# Altium integrated library Analog Devices Audio and Video Video Amps, Buffers and Filters.IntLib: 89 symbols (part 4 of 5)
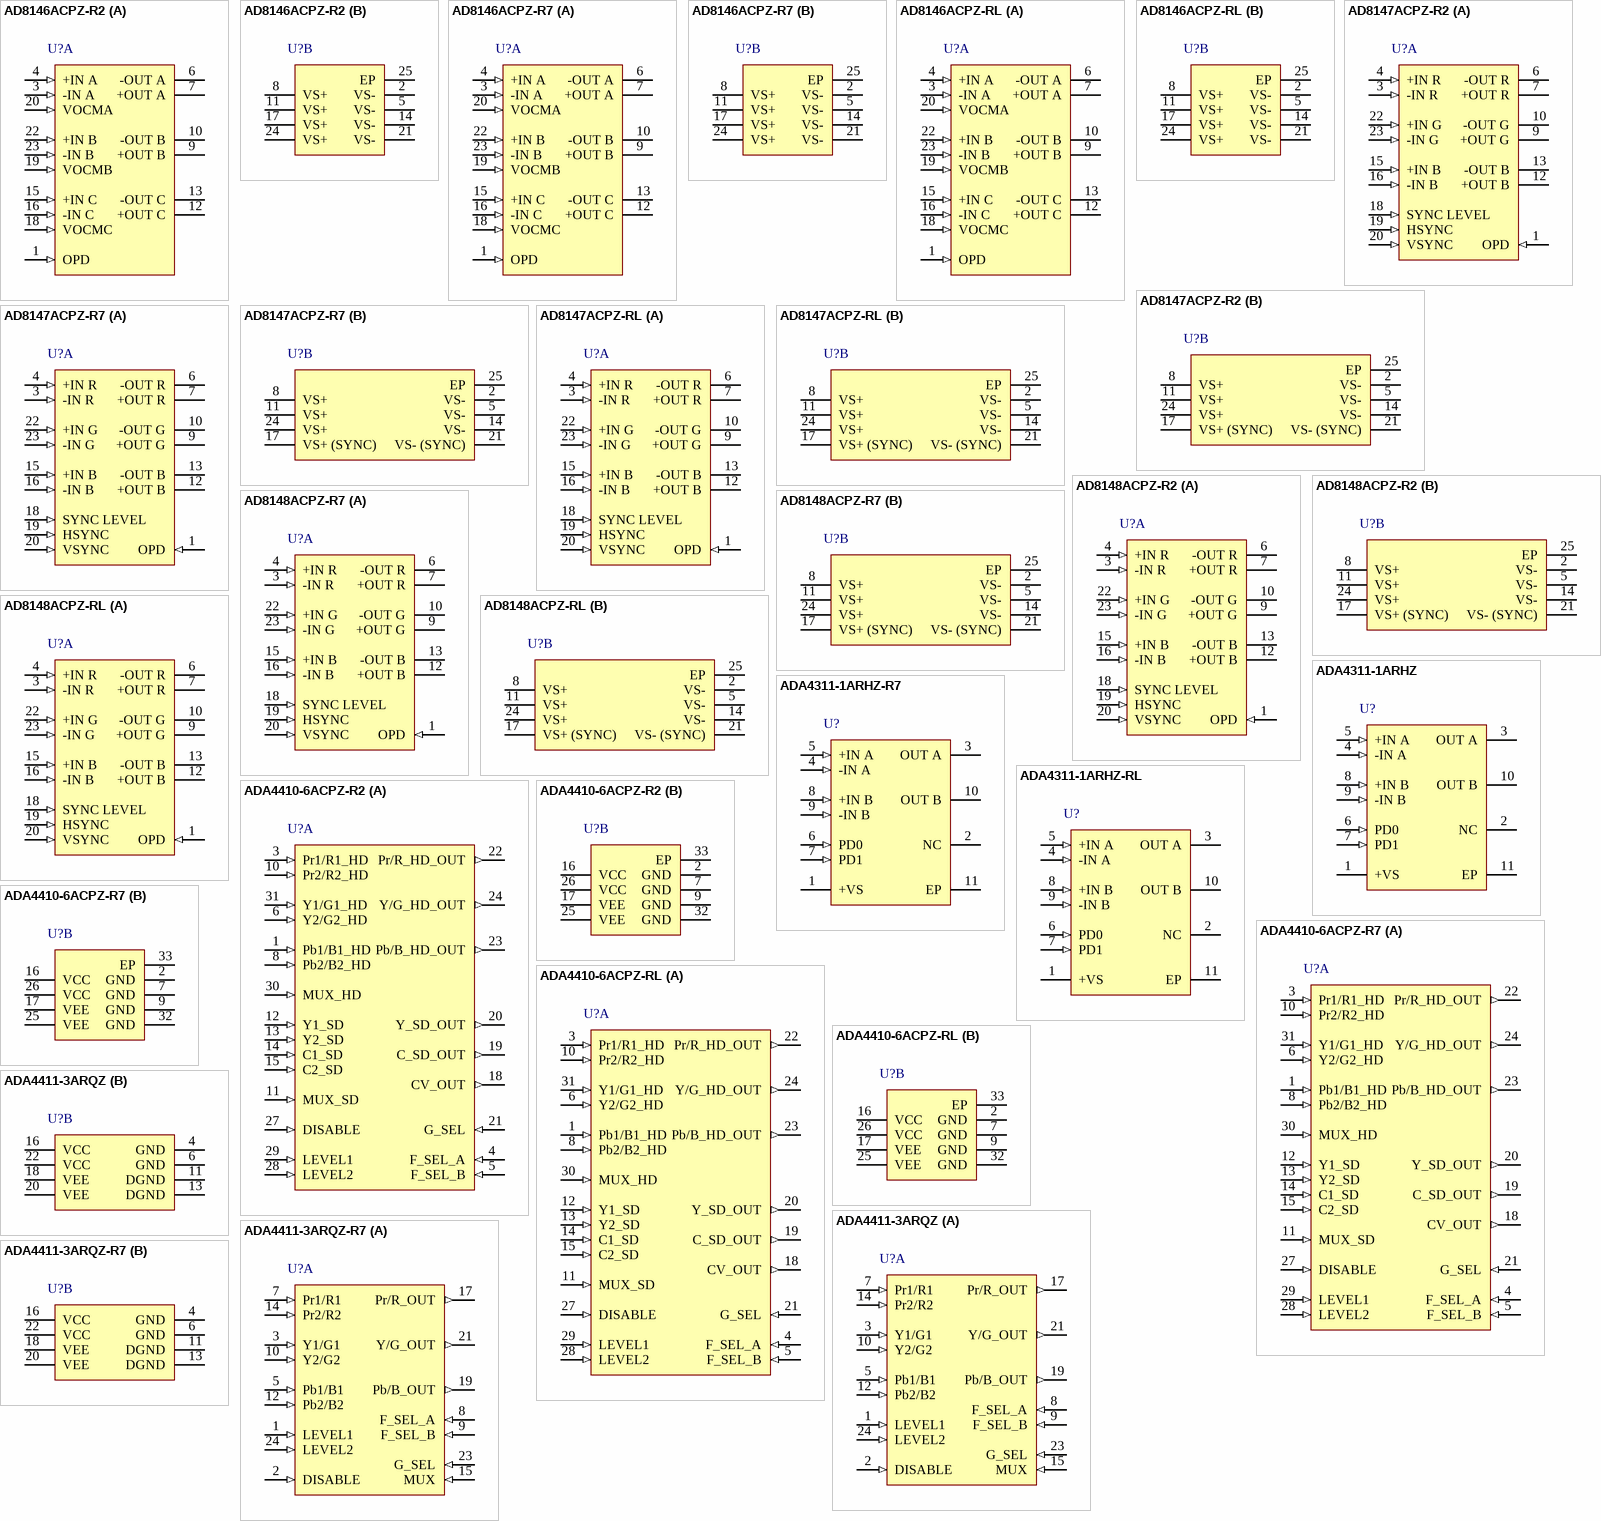
[diagram p7: symbols AD8146ACPZ-R2 to ADA4411-3ARQZ-R7]

## AD8148ACPZ-RL
designator U?
Triple Differential Driver for Wideband Video, 4.5 to 5.5 V Supply, 700 MHz Bandwidth, Industrial, 24-pin QFN (CP-24-1), Reel; Manufacturer: Analog Devices; PartNumber: AD8148ACPZ-RL; -3dB Bandwidth: 700MHz, 620MHz; 0.1 dB Flatness (MHz): 235, 200; Max Pos Supply: 5.5V; Min Pos Supply: 4.5V; Minimum Gain (Acl): 4; Slew Rate (V/us): 3000; DatasheetVersion: Rev. A; PackageVersion: May-04; PackageReference: CP-24-1; PackageDescription: 24-Pin Lead Frame Chip Scale Package, Body 4 x 4 mm, Pitch 0.5 mm; Supplier 1: Digi-Key; Supplier Part Number 1: AD8148ACPZ-RL-ND; Supplier 2: Newark; Supplier Part Number 2: 46M5270; Supplier 3: Mouser; Supplier Part Number 3: 584-AD8148ACPZ-R; Packing: Reel; Mounting Technology: Surface Mount; Code_JEDEC: MO-220-VGGD-2; ComponentLink1Description: Manufacturer URL; ComponentLink1URL: http://www.analog.com/en/index.html; ComponentLink2Description: Datasheet; ComponentLink2URL: http://www.analog.com/static/imported-files/data_sheets/AD8146_8147_8148.pdf; ComponentLink3Description: Package Specification; ComponentLink3URL: http://www.analog.com/static/imported-files/packages/CP_24_1.pdf; ComponentLink4Description: URL Link1; ComponentLink4URL: Product URL:http://www.analog.com/en/specialty-amplifiers/video-ampsbuffersfilters/ad8148/products/product.html
footprint ADI-CP-24-1_N (QFN, 24-Leads, Body 4x4mm, Pitch 0.5mm, Thermal Pad 2.1x2.1mm, IPC Medium Density)
footprint ADI-CP-24-1_L (QFN, 24-Leads, Body 4x4mm, Pitch 0.5mm, Thermal Pad 2.1x2.1mm, IPC High Density)
footprint ADI-CP-24-1_M (QFN, 24-Leads, Body 4x4mm, Pitch 0.5mm, Thermal Pad 2.1x2.1mm, IPC Low Density)
part A pins: 1 OPD (in) "Output Pull-Down.", 3 -IN R (in) "Inverting Input, Red Amplifier.", 4 +IN R (in) "Noninverting Input, Red Amplifier.", 6 -OUT R (hiz) "Negative Output, Red Amplifier.", 7 +OUT R (hiz) "Positive Output, Red Amplifier.", 9 +OUT G (hiz) "Positive Output, Green Amplifier.", 10 -OUT G (hiz) "Negative Output, Green Amplifier.", 12 +OUT B (hiz) "Positive Output, Blue Amplifier.", 13 -OUT B (hiz) "Negative Output, Blue Amplifier.", 15 +IN B (in) "Noninverting Input, Blue Amplifier.", 16 -IN B (in) "Inverting Input, Blue Amplifier.", 18 SYNC LEVEL (in) "The voltage applied to this pin controls the amplitude of the sync pulses that are applied to the common-mode voltages.", 19 HSYNC (in) "Horizontal Sync Pulse Input.", 20 VSYNC (in) "Vertical Sync Pulse Input.", 22 +IN G (in) "Noninverting Input, Green Amplifier.", 23 -IN G (in) "Inverting Input, Green Amplifier."
part B pins: 2 VS- (power) "Negative Power Supply Voltage", 5 VS- (power) "Negative Power Supply Voltage", 8 VS+ (power) "Positive Power Supply Voltage.", 11 VS+ (power) "Positive Power Supply Voltage.", 14 VS- (power) "Negative Power Supply Voltage", 17 VS+ (SYNC) (power) "Positive Power Supply Voltage for Sync.", 21 VS- (SYNC) (power) "Negative Power Supply Voltage for Sync.", 24 VS+ (power) "Positive Power Supply Voltage.", 25 EP (power) "Signal Ground Reference."

## ADA4311-1ARHZ
designator U?
Low Cost, Dual, High Current Output Line Driver with Shutdown, 12 V Supply, 310 MHz Bandwidth, Industrial, 10-pin SOP (RH-10-1), Tube; Manufacturer: Analog Devices; PartNumber: ADA4311-1ARHZ; -3dB Bandwidth: 310 MHz; Minimum Gain (Acl): 5; Slew Rate (V/us): 1050; DatasheetVersion: Rev. 0; PackageVersion: 071008-C, 07/2008; PackageReference: RH-10-1; PackageDescription: 10-Pin Mini Small Outline Package, Body 3 x 3 mm, Pitch 0.5 mm; Supplier 1: Digi-Key; Supplier Part Number 1: ADA4311-1ARHZ-ND; Supplier 2: Mouser; Supplier Part Number 2: 584-ADA4311-1ARHZ; Packing: Tube; Mounting Technology: Surface Mount; Code_JEDEC: MO-187-BA-T; ComponentLink1Description: Manufacturer URL; ComponentLink1URL: http://www.analog.com/en/index.html; ComponentLink2Description: Datasheet; ComponentLink2URL: http://www.analog.com/static/imported-files/data_sheets/AD4311-1.pdf; ComponentLink3Description: Package Specification; ComponentLink3URL: http://www.analog.com/static/imported-files/packages/PKG_PDF/MSOP_ED(RH)/RH_10_1.pdf; ComponentLink4Description: URL Link1; ComponentLink4URL: Product URL:http://www.analog.com/en/specialty-amplifiers/broadband-amplifiers/ada4311-1/products/product.html
footprint ADI-RH-10-1_N (SOP, 10-Leads, Body 3x3mm, Pitch 0.5mm, Thermal Pad 2.17x1.73mm, IPC Medium Density)
footprint ADI-RH-10-1_L (SOP, 10-Leads, Body 3x3mm, Pitch 0.5mm, Thermal Pad 2.17x1.73mm, IPC High Density)
footprint ADI-RH-10-1_M (SOP, 10-Leads, Body 3x3mm, Pitch 0.5mm, Thermal Pad 2.17x1.73mm, IPC Low Density)
pins: 1 +VS (power) "Positive Power Supply Input.", 2 NC "No Connection.", 3 OUT A (hiz) "Amplifier A Output.", 4 -IN A (in) "Amplifier A Inverting Input.", 5 +IN A (in) "Amplifier A Noninverting Input.", 6 PD0 (in) "Power Dissipation Control.", 7 PD1 (in) "Power Dissipation Control.", 8 +IN B (in) "Amplifier B Noninverting Input.", 9 -IN B (in) "Amplifier B Inverting Input.", 10 OUT B (hiz) "Amplifier B Output.", 11 EP (power) "Ground (Electrical Connection Required)."

## ADA4311-1ARHZ-R7
designator U?
Low Cost, Dual, High Current Output Line Driver with Shutdown, 12 V Supply, 310 MHz Bandwidth, Industrial, 10-pin SOP (RH-10-1), Reel; Manufacturer: Analog Devices; PartNumber: ADA4311-1ARHZ-R7; -3dB Bandwidth: 310 MHz; Minimum Gain (Acl): 5; Slew Rate (V/us): 1050; DatasheetVersion: Rev. 0; PackageVersion: 071008-C, 07/2008; PackageReference: RH-10-1; PackageDescription: 10-Pin Mini Small Outline Package, Body 3 x 3 mm, Pitch 0.5 mm; Supplier 1: Digi-Key; Supplier Part Number 1: ADA4311-1ARHZ-R7TR-ND; Supplier 2: Digi-Key; Supplier Part Number 2: ADA4311-1ARHZ-R7CT-ND; Supplier 3: Digi-Key; Supplier Part Number 3: ADA4311-1ARHZ-R7DKR-ND; Supplier 4: Mouser; Supplier Part Number 4: 584-ADA4311-1ARHZ-R7; Packing: Reel; Mounting Technology: Surface Mount; Code_JEDEC: MO-187-BA-T; ComponentLink1Description: Manufacturer URL; ComponentLink1URL: http://www.analog.com/en/index.html; ComponentLink2Description: Datasheet; ComponentLink2URL: http://www.analog.com/static/imported-files/data_sheets/AD4311-1.pdf; ComponentLink3Description: Package Specification; ComponentLink3URL: http://www.analog.com/static/imported-files/packages/PKG_PDF/MSOP_ED(RH)/RH_10_1.pdf; ComponentLink4Description: URL Link1; ComponentLink4URL: Product URL:http://www.analog.com/en/specialty-amplifiers/broadband-amplifiers/ada4311-1/products/product.html
footprint ADI-RH-10-1_N (SOP, 10-Leads, Body 3x3mm, Pitch 0.5mm, Thermal Pad 2.17x1.73mm, IPC Medium Density)
footprint ADI-RH-10-1_L (SOP, 10-Leads, Body 3x3mm, Pitch 0.5mm, Thermal Pad 2.17x1.73mm, IPC High Density)
footprint ADI-RH-10-1_M (SOP, 10-Leads, Body 3x3mm, Pitch 0.5mm, Thermal Pad 2.17x1.73mm, IPC Low Density)
pins: 1 +VS (power) "Positive Power Supply Input.", 2 NC "No Connection.", 3 OUT A (hiz) "Amplifier A Output.", 4 -IN A (in) "Amplifier A Inverting Input.", 5 +IN A (in) "Amplifier A Noninverting Input.", 6 PD0 (in) "Power Dissipation Control.", 7 PD1 (in) "Power Dissipation Control.", 8 +IN B (in) "Amplifier B Noninverting Input.", 9 -IN B (in) "Amplifier B Inverting Input.", 10 OUT B (hiz) "Amplifier B Output.", 11 EP (power) "Ground (Electrical Connection Required)."

## ADA4311-1ARHZ-RL
designator U?
Low Cost, Dual, High Current Output Line Driver with Shutdown, 12 V Supply, 310 MHz Bandwidth, Industrial, 10-pin SOP (RH-10-1), Reel; Manufacturer: Analog Devices; PartNumber: ADA4311-1ARHZ-RL; -3dB Bandwidth: 310 MHz; Minimum Gain (Acl): 5; Slew Rate (V/us): 1050; DatasheetVersion: Rev. 0; PackageVersion: 071008-C, 07/2008; PackageReference: RH-10-1; PackageDescription: 10-Pin Mini Small Outline Package, Body 3 x 3 mm, Pitch 0.5 mm; Supplier 1: Digi-Key; Supplier Part Number 1: ADA4311-1ARHZ-RL-ND; Supplier 2: Mouser; Supplier Part Number 2: 584-ADA4311-1ARHZ-R; Packing: Reel; Mounting Technology: Surface Mount; Code_JEDEC: MO-187-BA-T; ComponentLink1Description: Manufacturer URL; ComponentLink1URL: http://www.analog.com/en/index.html; ComponentLink2Description: Datasheet; ComponentLink2URL: http://www.analog.com/static/imported-files/data_sheets/AD4311-1.pdf; ComponentLink3Description: Package Specification; ComponentLink3URL: http://www.analog.com/static/imported-files/packages/PKG_PDF/MSOP_ED(RH)/RH_10_1.pdf; ComponentLink4Description: URL Link1; ComponentLink4URL: Product URL:http://www.analog.com/en/specialty-amplifiers/broadband-amplifiers/ada4311-1/products/product.html
footprint ADI-RH-10-1_N (SOP, 10-Leads, Body 3x3mm, Pitch 0.5mm, Thermal Pad 2.17x1.73mm, IPC Medium Density)
footprint ADI-RH-10-1_L (SOP, 10-Leads, Body 3x3mm, Pitch 0.5mm, Thermal Pad 2.17x1.73mm, IPC High Density)
footprint ADI-RH-10-1_M (SOP, 10-Leads, Body 3x3mm, Pitch 0.5mm, Thermal Pad 2.17x1.73mm, IPC Low Density)
pins: 1 +VS (power) "Positive Power Supply Input.", 2 NC "No Connection.", 3 OUT A (hiz) "Amplifier A Output.", 4 -IN A (in) "Amplifier A Inverting Input.", 5 +IN A (in) "Amplifier A Noninverting Input.", 6 PD0 (in) "Power Dissipation Control.", 7 PD1 (in) "Power Dissipation Control.", 8 +IN B (in) "Amplifier B Noninverting Input.", 9 -IN B (in) "Amplifier B Inverting Input.", 10 OUT B (hiz) "Amplifier B Output.", 11 EP (power) "Ground (Electrical Connection Required)."

## ADA4410-6ACPZ-R2
designator U?
Integrated Video Filter with Selectable Cutoff Frequencies for RGB, HD / SD, Y, C, and CV, 5 V Max Supply, 1080i, 720p Resolution, Industrial, 32-pin QFN (CP-32-2), Reel; Manufacturer: Analog Devices; PartNumber: ADA4410-6ACPZ-R2; Max Pos Supply: 12V; Standards: CV, RGB, SD, Y/C, YPbPr, YUV; Variable Gain: 2x, 4x; DatasheetVersion: Rev. B; PackageVersion: Jan-05; PackageReference: CP-32-2; PackageDescription: 32-Pin Lead Frame Chip Scale Package, Body 5 x 5 mm, Pitch 0.5 mm; Supplier 1: Digi-Key; Supplier Part Number 1: ADA4410-6ACPZ-R2CT-ND; Supplier 2: Digi-Key; Supplier Part Number 2: ADA4410-6ACPZ-R2DKR-ND; Supplier 3: Newark; Supplier Part Number 3: 12M7598; Supplier 4: Mouser; Supplier Part Number 4: N/A; Packing: Reel; Resolution: 1080i; Mounting Technology: Surface Mount; Code_JEDEC: MO-220-VHHD-2; ComponentLink1Description: Manufacturer URL; ComponentLink1URL: http://www.analog.com/en/index.html; ComponentLink2Description: Datasheet; ComponentLink2URL: http://www.analog.com/static/imported-files/data_sheets/ADA4410-6.pdf; ComponentLink3Description: Package Specification; ComponentLink3URL: http://www.analog.com/static/imported-files/packages/414143737956480539664569CP_32_2.pdf; ComponentLink4Description: URL Link1; ComponentLink4URL: Product URL:http://www.analog.com/en/specialty-amplifiers/video-ampsbuffersfilters/ada4410-6/products/product.html
footprint ADI-CP-32-2_N (QFN, 32-Leads, Body 5x5mm, Pitch 0.5mm, Thermal Pad 3.1x3.1mm, IPC Medium Density)
footprint ADI-CP-32-2_L (QFN, 32-Leads, Body 5x5mm, Pitch 0.5mm, Thermal Pad 3.1x3.1mm, IPC High Density)
footprint ADI-CP-32-2_M (QFN, 32-Leads, Body 5x5mm, Pitch 0.5mm, Thermal Pad 3.1x3.1mm, IPC Low Density)
part A pins: 1 Pb1/B1_HD (in) "Channel 1 Pb/B High Definition Input", 3 Pr1/R1_HD (in) "Channel 1 Pr/R High Definition Input", 4 F_SEL_A (in) "Filter Cutoff Select Input A", 5 F_SEL_B (in) "Filter Cutoff Select Input B", 6 Y2/G2_HD (in) "Channel 2 Y/G High Definition Input", 8 Pb2/B2_HD (in) "Channel 2 Pb/B High Definition Input", 10 Pr2/R2_HD (in) "Channel 2 Pr/R High Definition Input", 11 MUX_SD (in) "Standard Definition Input Mux Select Line", 12 Y1_SD (in) "Channel 1 Y Standard Definition Input", 13 Y2_SD (in) "Channel 2 Y Standard Definition Input", 14 C1_SD (in) "Channel 1 C Standard Definition Input", 15 C2_SD (in) "Channel 2 C Standard Definition Input", 18 CV_OUT (out) "Composite Video Output", 19 C_SD_OUT (out) "C Standard Definition Output", 20 Y_SD_OUT (out) "Y Standard Definition Output", 21 G_SEL (in) "Gain Select", 22 Pr/R_HD_OUT (out) "Pr/R High Definition Output", 23 Pb/B_HD_OUT (out) "Pb/B High Definition Output", 24 Y/G_HD_OUT (out) "Y/G High Definition Output", 27 DISABLE (in) "Disable/Power Down/Logic Reference", 28 LEVEL2 (in) "DC Level Adjust Pin 2", 29 LEVEL1 (in) "DC Level Adjust Pin 1", 30 MUX_HD (in) "High Definition Input Mux Select Line", 31 Y1/G1_HD (in) "Channel 1 Y/G High Definition Input"
part B pins: 2 GND (power) "Signal Ground Reference", 7 GND (power) "Signal Ground Reference", 9 GND (power) "Signal Ground Reference", 16 VCC (power) "Positive Power Supply", 17 VEE (power) "Negative Power Supply", 25 VEE (power) "Negative Power Supply", 26 VCC (power) "Positive Power Supply", 32 GND (power) "Signal Ground Reference", 33 EP

## ADA4410-6ACPZ-R7
designator U?
Integrated Video Filter with Selectable Cutoff Frequencies for RGB, HD / SD, Y, C, and CV, 5 V Max Supply, 1080i, 720p Resolution, Industrial, 32-pin QFN (CP-32-2), Reel; Manufacturer: Analog Devices; PartNumber: ADA4410-6ACPZ-R7; Max Pos Supply: 12V; Standards: CV, RGB, SD, Y/C, YPbPr, YUV; Variable Gain: 2x, 4x; DatasheetVersion: Rev. B; PackageVersion: Jan-05; PackageReference: CP-32-2; PackageDescription: 32-Pin Lead Frame Chip Scale Package, Body 5 x 5 mm, Pitch 0.5 mm; Supplier 1: Digi-Key; Supplier Part Number 1: ADA4410-6ACPZ-R7TR-ND; Supplier 2: Digi-Key; Supplier Part Number 2: ADA4410-6ACPZ-R7CT-ND; Supplier 3: Digi-Key; Supplier Part Number 3: ADA4410-6ACPZ-R7DKR-ND; Supplier 4: Mouser; Supplier Part Number 4: 584-ADA4410-6ACPZ-R7; Packing: Reel; Resolution: 1080i; Mounting Technology: Surface Mount; Code_JEDEC: MO-220-VHHD-2; ComponentLink1Description: Manufacturer URL; ComponentLink1URL: http://www.analog.com/en/index.html; ComponentLink2Description: Datasheet; ComponentLink2URL: http://www.analog.com/static/imported-files/data_sheets/ADA4410-6.pdf; ComponentLink3Description: Package Specification; ComponentLink3URL: http://www.analog.com/static/imported-files/packages/414143737956480539664569CP_32_2.pdf; ComponentLink4Description: URL Link1; ComponentLink4URL: Product URL:http://www.analog.com/en/specialty-amplifiers/video-ampsbuffersfilters/ada4410-6/products/product.html
footprint ADI-CP-32-2_N (QFN, 32-Leads, Body 5x5mm, Pitch 0.5mm, Thermal Pad 3.1x3.1mm, IPC Medium Density)
footprint ADI-CP-32-2_L (QFN, 32-Leads, Body 5x5mm, Pitch 0.5mm, Thermal Pad 3.1x3.1mm, IPC High Density)
footprint ADI-CP-32-2_M (QFN, 32-Leads, Body 5x5mm, Pitch 0.5mm, Thermal Pad 3.1x3.1mm, IPC Low Density)
part A pins: 1 Pb1/B1_HD (in) "Channel 1 Pb/B High Definition Input", 3 Pr1/R1_HD (in) "Channel 1 Pr/R High Definition Input", 4 F_SEL_A (in) "Filter Cutoff Select Input A", 5 F_SEL_B (in) "Filter Cutoff Select Input B", 6 Y2/G2_HD (in) "Channel 2 Y/G High Definition Input", 8 Pb2/B2_HD (in) "Channel 2 Pb/B High Definition Input", 10 Pr2/R2_HD (in) "Channel 2 Pr/R High Definition Input", 11 MUX_SD (in) "Standard Definition Input Mux Select Line", 12 Y1_SD (in) "Channel 1 Y Standard Definition Input", 13 Y2_SD (in) "Channel 2 Y Standard Definition Input", 14 C1_SD (in) "Channel 1 C Standard Definition Input", 15 C2_SD (in) "Channel 2 C Standard Definition Input", 18 CV_OUT (out) "Composite Video Output", 19 C_SD_OUT (out) "C Standard Definition Output", 20 Y_SD_OUT (out) "Y Standard Definition Output", 21 G_SEL (in) "Gain Select", 22 Pr/R_HD_OUT (out) "Pr/R High Definition Output", 23 Pb/B_HD_OUT (out) "Pb/B High Definition Output", 24 Y/G_HD_OUT (out) "Y/G High Definition Output", 27 DISABLE (in) "Disable/Power Down/Logic Reference", 28 LEVEL2 (in) "DC Level Adjust Pin 2", 29 LEVEL1 (in) "DC Level Adjust Pin 1", 30 MUX_HD (in) "High Definition Input Mux Select Line", 31 Y1/G1_HD (in) "Channel 1 Y/G High Definition Input"
part B pins: 2 GND (power) "Signal Ground Reference", 7 GND (power) "Signal Ground Reference", 9 GND (power) "Signal Ground Reference", 16 VCC (power) "Positive Power Supply", 17 VEE (power) "Negative Power Supply", 25 VEE (power) "Negative Power Supply", 26 VCC (power) "Positive Power Supply", 32 GND (power) "Signal Ground Reference", 33 EP

## ADA4410-6ACPZ-RL
designator U?
Integrated Video Filter with Selectable Cutoff Frequencies for RGB, HD / SD, Y, C, and CV, 5 V Max Supply, 1080i, 720p Resolution, Industrial, 32-pin QFN (CP-32-2), Reel; Manufacturer: Analog Devices; PartNumber: ADA4410-6ACPZ-RL; Max Pos Supply: 12V; Standards: CV, RGB, SD, Y/C, YPbPr, YUV; Variable Gain: 2x, 4x; DatasheetVersion: Rev. B; PackageVersion: Jan-05; PackageReference: CP-32-2; PackageDescription: 32-Pin Lead Frame Chip Scale Package, Body 5 x 5 mm, Pitch 0.5 mm; Supplier 1: Digi-Key; Supplier Part Number 1: ADA4410-6ACPZ-RL-ND; Supplier 2: Mouser; Supplier Part Number 2: 584-ADA4410-6ACPZ-R; Packing: Reel; Resolution: 1080i; Mounting Technology: Surface Mount; Code_JEDEC: MO-220-VHHD-2; ComponentLink1Description: Manufacturer URL; ComponentLink1URL: http://www.analog.com/en/index.html; ComponentLink2Description: Datasheet; ComponentLink2URL: http://www.analog.com/static/imported-files/data_sheets/ADA4410-6.pdf; ComponentLink3Description: Package Specification; ComponentLink3URL: http://www.analog.com/static/imported-files/packages/414143737956480539664569CP_32_2.pdf; ComponentLink4Description: URL Link1; ComponentLink4URL: Product URL:http://www.analog.com/en/specialty-amplifiers/video-ampsbuffersfilters/ada4410-6/products/product.html
footprint ADI-CP-32-2_N (QFN, 32-Leads, Body 5x5mm, Pitch 0.5mm, Thermal Pad 3.1x3.1mm, IPC Medium Density)
footprint ADI-CP-32-2_L (QFN, 32-Leads, Body 5x5mm, Pitch 0.5mm, Thermal Pad 3.1x3.1mm, IPC High Density)
footprint ADI-CP-32-2_M (QFN, 32-Leads, Body 5x5mm, Pitch 0.5mm, Thermal Pad 3.1x3.1mm, IPC Low Density)
part A pins: 1 Pb1/B1_HD (in) "Channel 1 Pb/B High Definition Input", 3 Pr1/R1_HD (in) "Channel 1 Pr/R High Definition Input", 4 F_SEL_A (in) "Filter Cutoff Select Input A", 5 F_SEL_B (in) "Filter Cutoff Select Input B", 6 Y2/G2_HD (in) "Channel 2 Y/G High Definition Input", 8 Pb2/B2_HD (in) "Channel 2 Pb/B High Definition Input", 10 Pr2/R2_HD (in) "Channel 2 Pr/R High Definition Input", 11 MUX_SD (in) "Standard Definition Input Mux Select Line", 12 Y1_SD (in) "Channel 1 Y Standard Definition Input", 13 Y2_SD (in) "Channel 2 Y Standard Definition Input", 14 C1_SD (in) "Channel 1 C Standard Definition Input", 15 C2_SD (in) "Channel 2 C Standard Definition Input", 18 CV_OUT (out) "Composite Video Output", 19 C_SD_OUT (out) "C Standard Definition Output", 20 Y_SD_OUT (out) "Y Standard Definition Output", 21 G_SEL (in) "Gain Select", 22 Pr/R_HD_OUT (out) "Pr/R High Definition Output", 23 Pb/B_HD_OUT (out) "Pb/B High Definition Output", 24 Y/G_HD_OUT (out) "Y/G High Definition Output", 27 DISABLE (in) "Disable/Power Down/Logic Reference", 28 LEVEL2 (in) "DC Level Adjust Pin 2", 29 LEVEL1 (in) "DC Level Adjust Pin 1", 30 MUX_HD (in) "High Definition Input Mux Select Line", 31 Y1/G1_HD (in) "Channel 1 Y/G High Definition Input"
part B pins: 2 GND (power) "Signal Ground Reference", 7 GND (power) "Signal Ground Reference", 9 GND (power) "Signal Ground Reference", 16 VCC (power) "Positive Power Supply", 17 VEE (power) "Negative Power Supply", 25 VEE (power) "Negative Power Supply", 26 VCC (power) "Positive Power Supply", 32 GND (power) "Signal Ground Reference", 33 EP

## ADA4411-3ARQZ
designator U?
Integrated Triple Video Filter and Buffer with Selectable Cutoff Frequencies and Multiplexed Inputs for RGB, HD and SD, 12 V Max Supply, 1080i, 720p Resolution, Industrial, 24-pin SOP (RQ-24), Tube; Manufacturer: Analog Devices; PartNumber: ADA4411-3ARQZ; Max Pos Supply: 12V; Standards: RGB, SD, Y/C, YPbPr, YUV; Variable Gain: 2x, 4x; DatasheetVersion: Rev. 0; PackageVersion: Aug-05; PackageReference: RQ-24; PackageDescription: 24-Pin Shrink Small Outline Package, Body 8.66 x 3.9 mm, Pitch 0.635 mm; Supplier 1: Digi-Key; Supplier Part Number 1: ADA4411-3ARQZ-ND; Supplier 2: Farnell; Supplier Part Number 2: 1078234; Supplier 3: Mouser; Supplier Part Number 3: 584-ADA4411-3ARQZ; Packing: Tube; Resolution: 1080i, 720p; Mounting Technology: Surface Mount; Code_JEDEC: MO-137AE; ComponentLink1Description: Manufacturer URL; ComponentLink1URL: http://www.analog.com/en/index.html; ComponentLink2Description: Datasheet; ComponentLink2URL: http://www.analog.com/static/imported-files/data_sheets/ADA4411-3.pdf; ComponentLink3Description: Package Specification; ComponentLink3URL: http:/www.analog.com/static/imported-files/packages/5011644139806RQ_24.pdf; ComponentLink4Description: URL Link1; ComponentLink4URL: Product URL:http://www.analog.com/en/specialty-amplifiers/video-ampsbuffersfilters/ada4411-3/products/product.html
footprint ADI-RQ-24_N (SOP, 24-Leads, Body 8.66x3.9mm, Pitch 0.635mm, IPC Medium Density)
footprint ADI-RQ-24_L (SOP, 24-Leads, Body 8.66x3.9mm, Pitch 0.635mm, IPC High Density)
footprint ADI-RQ-24_M (SOP, 24-Leads, Body 8.66x3.9mm, Pitch 0.635mm, IPC Low Density)
part A pins: 1 LEVEL1 (in) "DC Level Adjust Pin 1", 2 DISABLE (in) "Disable/Power Down", 3 Y1/G1 (in) "Channel 1 Y/G Video Input", 5 Pb1/B1 (in) "Channel 1 Pb/B Video Input", 7 Pr1/R1 (in) "Channel 1 Pr/R Video Input", 8 F_SEL_A (in) "Filter Cutoff Select Input A", 9 F_SEL_B (in) "Filter Cutoff Select Input B", 10 Y2/G2 (in) "Channel 2 Y/G Video Input", 12 Pb2/B2 (in) "Channel 2 Pb/B Video Input", 14 Pr2/R2 (in) "Channel 2 Pr/R Video Input", 15 MUX (in) "Input Mux Select Line", 17 Pr/R_OUT (out) "Pr/R Video Output", 19 Pb/B_OUT (out) "Pb/B Video Output", 21 Y/G_OUT (out) "Y/G Video Output", 23 G_SEL (in) "Gain Select", 24 LEVEL2 (in) "DC Level Adjust Pin 2"
part B pins: 4 GND (power) "Signal Ground Reference", 6 GND (power) "Signal Ground Reference", 11 DGND (power) "Digital Ground Reference", 13 DGND (power) "Digital Ground Reference", 16 VCC (power) "Positive Power Supply", 18 VEE (power) "Negative Power Supply", 20 VEE (power) "Negative Power Supply", 22 VCC (power) "Positive Power Supply"

## ADA4411-3ARQZ-R7
designator U?
Integrated Triple Video Filter and Buffer with Selectable Cutoff Frequencies and Multiplexed Inputs for RGB, HD and SD, 12 V Max Supply, 1080i, 720p Resolution, Industrial, 24-pin SOP (RQ-24), Reel; Manufacturer: Analog Devices; PartNumber: ADA4411-3ARQZ-R7; Max Pos Supply: 12V; Standards: RGB, SD, Y/C, YPbPr, YUV; Variable Gain: 2x, 4x; DatasheetVersion: Rev. 0; PackageVersion: Aug-05; PackageReference: RQ-24; PackageDescription: 24-Pin Shrink Small Outline Package, Body 8.66 x 3.9 mm, Pitch 0.635 mm; Supplier 1: Digi-Key; Supplier Part Number 1: ADA4411-3ARQZ-R7TR-ND; Supplier 2: Digi-Key; Supplier Part Number 2: ADA4411-3ARQZ-R7CT-ND; Supplier 3: Digi-Key; Supplier Part Number 3: ADA4411-3ARQZ-R7DKR-ND; Supplier 4: Mouser; Supplier Part Number 4: 584-ADA4411-3ARQZ-R7; Packing: Reel; Resolution: 1080i, 720p; Mounting Technology: Surface Mount; Code_JEDEC: MO-137AE; ComponentLink1Description: Manufacturer URL; ComponentLink1URL: http://www.analog.com/en/index.html; ComponentLink2Description: Datasheet; ComponentLink2URL: http://www.analog.com/static/imported-files/data_sheets/ADA4411-3.pdf; ComponentLink3Description: Package Specification; ComponentLink3URL: http:/www.analog.com/static/imported-files/packages/5011644139806RQ_24.pdf; ComponentLink4Description: URL Link1; ComponentLink4URL: Product URL:http://www.analog.com/en/specialty-amplifiers/video-ampsbuffersfilters/ada4411-3/products/product.html
footprint ADI-RQ-24_N (SOP, 24-Leads, Body 8.66x3.9mm, Pitch 0.635mm, IPC Medium Density)
footprint ADI-RQ-24_L (SOP, 24-Leads, Body 8.66x3.9mm, Pitch 0.635mm, IPC High Density)
footprint ADI-RQ-24_M (SOP, 24-Leads, Body 8.66x3.9mm, Pitch 0.635mm, IPC Low Density)
part A pins: 1 LEVEL1 (in) "DC Level Adjust Pin 1", 2 DISABLE (in) "Disable/Power Down", 3 Y1/G1 (in) "Channel 1 Y/G Video Input", 5 Pb1/B1 (in) "Channel 1 Pb/B Video Input", 7 Pr1/R1 (in) "Channel 1 Pr/R Video Input", 8 F_SEL_A (in) "Filter Cutoff Select Input A", 9 F_SEL_B (in) "Filter Cutoff Select Input B", 10 Y2/G2 (in) "Channel 2 Y/G Video Input", 12 Pb2/B2 (in) "Channel 2 Pb/B Video Input", 14 Pr2/R2 (in) "Channel 2 Pr/R Video Input", 15 MUX (in) "Input Mux Select Line", 17 Pr/R_OUT (out) "Pr/R Video Output", 19 Pb/B_OUT (out) "Pb/B Video Output", 21 Y/G_OUT (out) "Y/G Video Output", 23 G_SEL (in) "Gain Select", 24 LEVEL2 (in) "DC Level Adjust Pin 2"
part B pins: 4 GND (power) "Signal Ground Reference", 6 GND (power) "Signal Ground Reference", 11 DGND (power) "Digital Ground Reference", 13 DGND (power) "Digital Ground Reference", 16 VCC (power) "Positive Power Supply", 18 VEE (power) "Negative Power Supply", 20 VEE (power) "Negative Power Supply", 22 VCC (power) "Positive Power Supply"

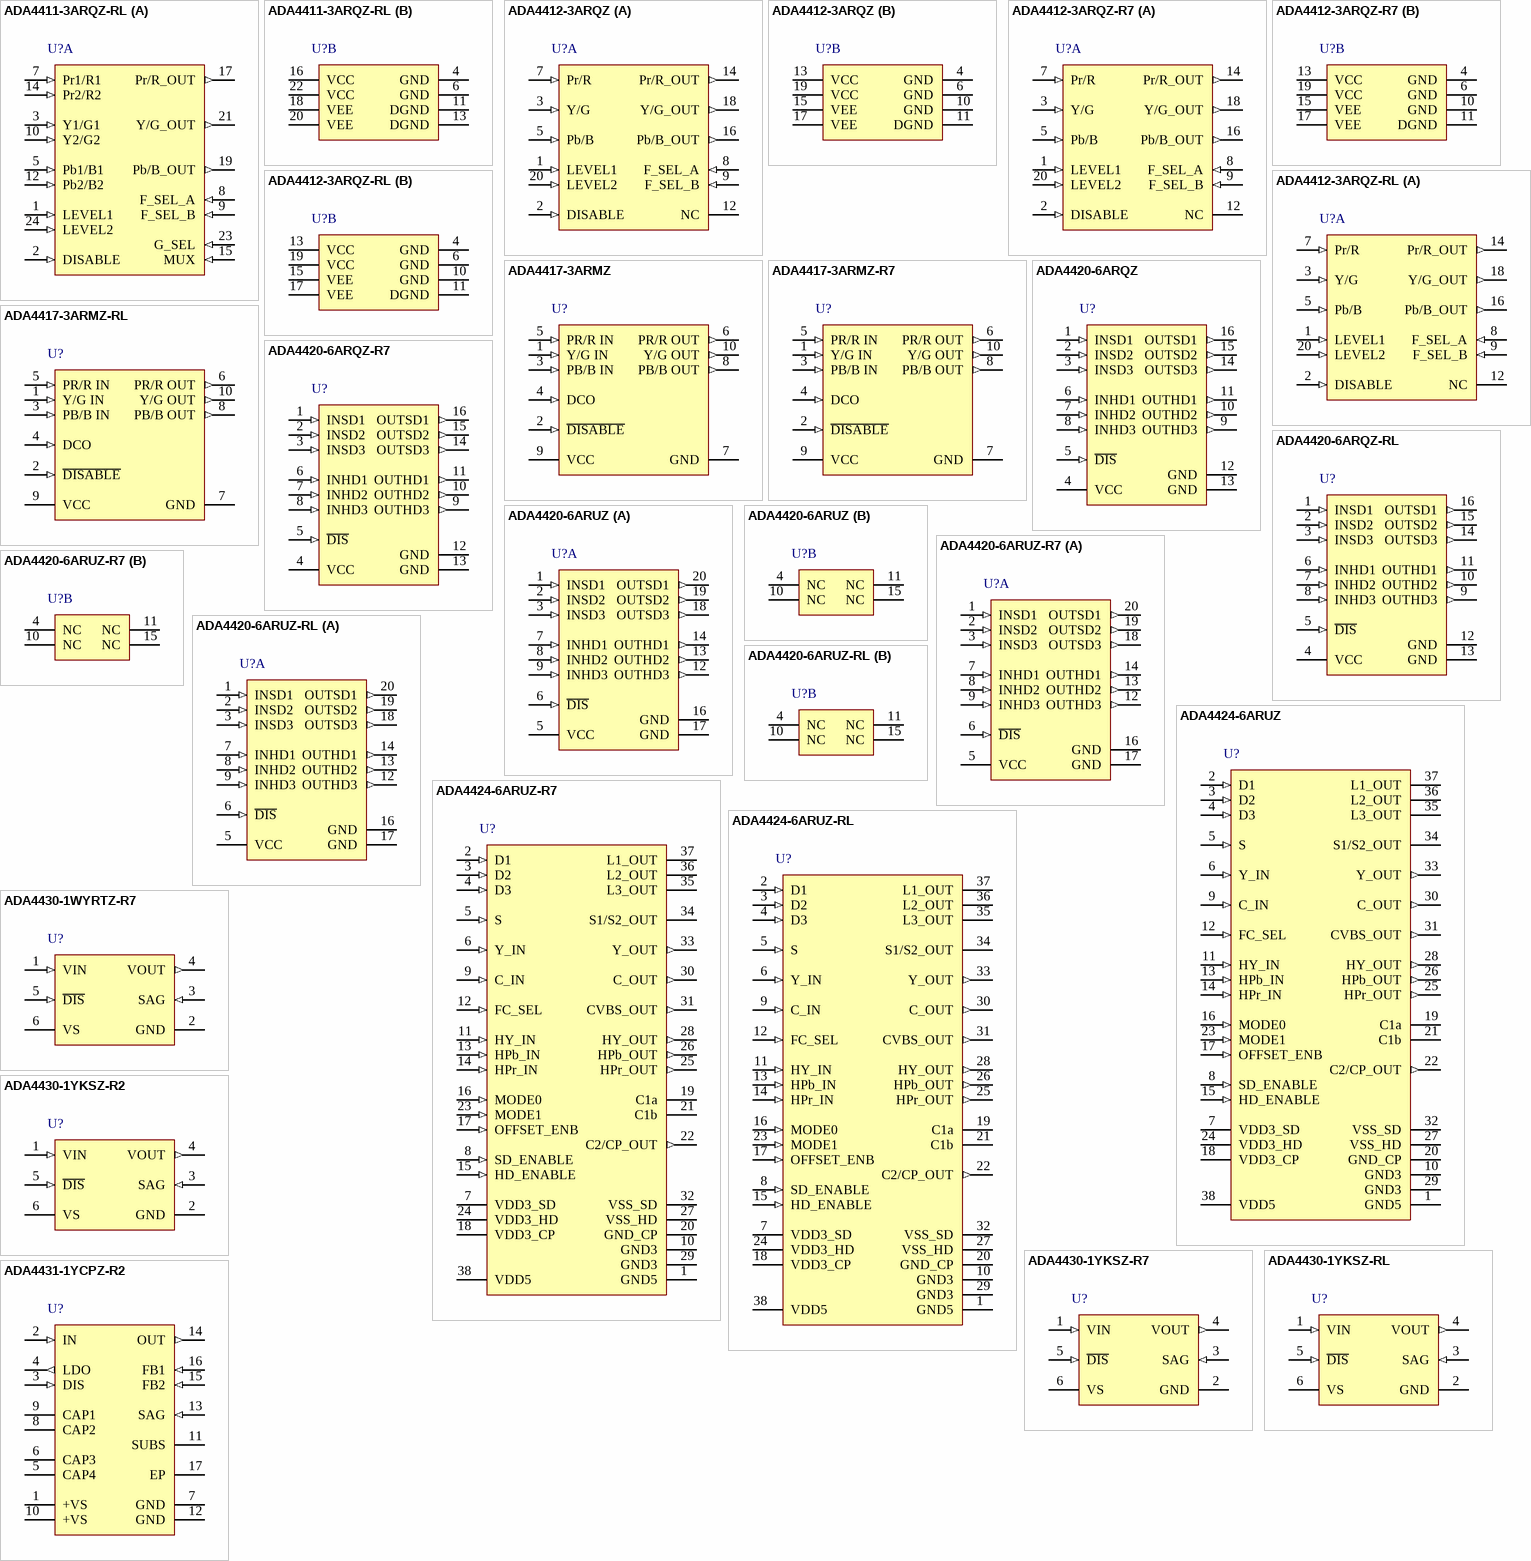
[diagram p3: symbols ADA4411-3ARQZ-RL to ADA4431-1YCPZ-R2]

## ADA4411-3ARQZ-RL
designator U?
Integrated Triple Video Filter and Buffer with Selectable Cutoff Frequencies and Multiplexed Inputs for RGB, HD and SD, 12 V Max Supply, 1080i, 720p Resolution, Industrial, 24-pin SOP (RQ-24), Reel; Manufacturer: Analog Devices; PartNumber: ADA4411-3ARQZ-RL; Max Pos Supply: 12V; Standards: RGB, SD, Y/C, YPbPr, YUV; Variable Gain: 2x, 4x; DatasheetVersion: Rev. 0; PackageVersion: Aug-05; PackageReference: RQ-24; PackageDescription: 24-Pin Shrink Small Outline Package, Body 8.66 x 3.9 mm, Pitch 0.635 mm; Supplier 1: Digi-Key; Supplier Part Number 1: ADA4411-3ARQZ-RL-ND; Supplier 2: Mouser; Supplier Part Number 2: 584-ADA4411-3ARQZ-R; Packing: Reel; Resolution: 1080i, 720p; Mounting Technology: Surface Mount; Code_JEDEC: MO-137AE; ComponentLink1Description: Manufacturer URL; ComponentLink1URL: http://www.analog.com/en/index.html; ComponentLink2Description: Datasheet; ComponentLink2URL: http://www.analog.com/static/imported-files/data_sheets/ADA4411-3.pdf; ComponentLink3Description: Package Specification; ComponentLink3URL: http:/www.analog.com/static/imported-files/packages/5011644139806RQ_24.pdf; ComponentLink4Description: URL Link1; ComponentLink4URL: Product URL:http://www.analog.com/en/specialty-amplifiers/video-ampsbuffersfilters/ada4411-3/products/product.html
footprint ADI-RQ-24_N (SOP, 24-Leads, Body 8.66x3.9mm, Pitch 0.635mm, IPC Medium Density)
footprint ADI-RQ-24_L (SOP, 24-Leads, Body 8.66x3.9mm, Pitch 0.635mm, IPC High Density)
footprint ADI-RQ-24_M (SOP, 24-Leads, Body 8.66x3.9mm, Pitch 0.635mm, IPC Low Density)
part A pins: 1 LEVEL1 (in) "DC Level Adjust Pin 1", 2 DISABLE (in) "Disable/Power Down", 3 Y1/G1 (in) "Channel 1 Y/G Video Input", 5 Pb1/B1 (in) "Channel 1 Pb/B Video Input", 7 Pr1/R1 (in) "Channel 1 Pr/R Video Input", 8 F_SEL_A (in) "Filter Cutoff Select Input A", 9 F_SEL_B (in) "Filter Cutoff Select Input B", 10 Y2/G2 (in) "Channel 2 Y/G Video Input", 12 Pb2/B2 (in) "Channel 2 Pb/B Video Input", 14 Pr2/R2 (in) "Channel 2 Pr/R Video Input", 15 MUX (in) "Input Mux Select Line", 17 Pr/R_OUT (out) "Pr/R Video Output", 19 Pb/B_OUT (out) "Pb/B Video Output", 21 Y/G_OUT (out) "Y/G Video Output", 23 G_SEL (in) "Gain Select", 24 LEVEL2 (in) "DC Level Adjust Pin 2"
part B pins: 4 GND (power) "Signal Ground Reference", 6 GND (power) "Signal Ground Reference", 11 DGND (power) "Digital Ground Reference", 13 DGND (power) "Digital Ground Reference", 16 VCC (power) "Positive Power Supply", 18 VEE (power) "Negative Power Supply", 20 VEE (power) "Negative Power Supply", 22 VCC (power) "Positive Power Supply"

## ADA4412-3ARQZ
designator U?
Integrated Triple Video Filter with Selectable Cutoff Frequencies for RGB, HD and SD, 5 V Max Supply, 1080i, 720p Resolution, Industrial, 20-pin SOP (RQ-20), Tube; Manufacturer: Analog Devices; PartNumber: ADA4412-3ARQZ; Max Pos Supply: 12V; Standards: RGB, SD, Y/C, YPbPr, YUV; Variable Gain: 2x; DatasheetVersion: Rev. 0; PackageVersion: Aug-05; PackageReference: RQ-20; PackageDescription: 20-Pin Shrink Small Outline Package, Body 8.66 x 3.9 mm, Pitch 0.635 mm; Supplier 1: Digi-Key; Supplier Part Number 1: ADA4412-3ARQZ-ND; Supplier 2: Farnell; Supplier Part Number 2: 1117875; Supplier 3: Newark; Supplier Part Number 3: 31M3730; Supplier 4: Newark; Supplier Part Number 4: 59K0888; Supplier 5: Mouser; Supplier Part Number 5: 584-ADA4412-3ARQZ; Packing: Tube; Resolution: 1080i, 720p; Mounting Technology: Surface Mount; Code_JEDEC: MO-137-AD; ComponentLink1Description: Manufacturer URL; ComponentLink1URL: http://www.analog.com/en/index.html; ComponentLink2Description: Datasheet; ComponentLink2URL: http://www.analog.com/static/imported-files/data_sheets/ADA4412-3.pdf; ComponentLink3Description: Package Specification; ComponentLink3URL: http:/www.analog.com/static/imported-files/packages/184195322RQ_20.pdf; ComponentLink4Description: URL Link1; ComponentLink4URL: Product URL:http://www.analog.com/en/specialty-amplifiers/video-ampsbuffersfilters/ada4412-3/products/product.html
footprint ADI-RQ-20_N (SOP, 20-Leads, Body 8.66x3.9mm, Pitch 0.635mm, IPC Medium Density)
footprint ADI-RQ-20_L (SOP, 20-Leads, Body 8.66x3.9mm, Pitch 0.635mm, IPC High Density)
footprint ADI-RQ-20_M (SOP, 20-Leads, Body 8.66x3.9mm, Pitch 0.635mm, IPC Low Density)
part A pins: 1 LEVEL1 (in) "DC Level Adjust Pin 1", 2 DISABLE (in) "Disable/Power Down", 3 Y/G (in) "Y/G Video Input", 5 Pb/B (in) "Pb/B Video Input", 7 Pr/R (in) "Pr/R Video Input", 8 F_SEL_A (in) "Filter Cutoff Select Input A", 9 F_SEL_B (in) "Filter Cutoff Select Input B", 12 NC "No Internal Connection", 14 Pr/R_OUT (out) "Pr/R Video Output", 16 Pb/B_OUT (out) "Pb/B Video Output", 18 Y/G_OUT (out) "Y/G Video Output", 20 LEVEL2 (in) "DC Level Adjust Pin 2"
part B pins: 4 GND (power) "Signal Ground Reference", 6 GND (power) "Signal Ground Reference", 10 GND (power) "Signal Ground Reference", 11 DGND (power) "Digital Ground Reference", 13 VCC (power) "Positive Power Supply", 15 VEE (power) "Negative Power Supply", 17 VEE (power) "Negative Power Supply", 19 VCC (power) "Positive Power Supply"

## ADA4412-3ARQZ-R7
designator U?
Integrated Triple Video Filter with Selectable Cutoff Frequencies for RGB, HD and SD, 5 V Max Supply, 1080i, 720p Resolution, Industrial, 20-pin SOP (RQ-20), Reel; Manufacturer: Analog Devices; PartNumber: ADA4412-3ARQZ-R7; Max Pos Supply: 12V; Standards: RGB, SD, Y/C, YPbPr, YUV; Variable Gain: 2x; DatasheetVersion: Rev. 0; PackageVersion: Aug-05; PackageReference: RQ-20; PackageDescription: 20-Pin Shrink Small Outline Package, Body 8.66 x 3.9 mm, Pitch 0.635 mm; Supplier 1: Digi-Key; Supplier Part Number 1: ADA4412-3ARQZ-R7-ND; Supplier 2: Newark; Supplier Part Number 2: 59K0890; Supplier 3: Mouser; Supplier Part Number 3: 584-ADA4412-3ARQZ-R7; Packing: Reel; Resolution: 1080i, 720p; Mounting Technology: Surface Mount; Code_JEDEC: MO-137-AD; ComponentLink1Description: Manufacturer URL; ComponentLink1URL: http://www.analog.com/en/index.html; ComponentLink2Description: Datasheet; ComponentLink2URL: http://www.analog.com/static/imported-files/data_sheets/ADA4412-3.pdf; ComponentLink3Description: Package Specification; ComponentLink3URL: http:/www.analog.com/static/imported-files/packages/184195322RQ_20.pdf; ComponentLink4Description: URL Link1; ComponentLink4URL: Product URL:http://www.analog.com/en/specialty-amplifiers/video-ampsbuffersfilters/ada4412-3/products/product.html
footprint ADI-RQ-20_N (SOP, 20-Leads, Body 8.66x3.9mm, Pitch 0.635mm, IPC Medium Density)
footprint ADI-RQ-20_L (SOP, 20-Leads, Body 8.66x3.9mm, Pitch 0.635mm, IPC High Density)
footprint ADI-RQ-20_M (SOP, 20-Leads, Body 8.66x3.9mm, Pitch 0.635mm, IPC Low Density)
part A pins: 1 LEVEL1 (in) "DC Level Adjust Pin 1", 2 DISABLE (in) "Disable/Power Down", 3 Y/G (in) "Y/G Video Input", 5 Pb/B (in) "Pb/B Video Input", 7 Pr/R (in) "Pr/R Video Input", 8 F_SEL_A (in) "Filter Cutoff Select Input A", 9 F_SEL_B (in) "Filter Cutoff Select Input B", 12 NC "No Internal Connection", 14 Pr/R_OUT (out) "Pr/R Video Output", 16 Pb/B_OUT (out) "Pb/B Video Output", 18 Y/G_OUT (out) "Y/G Video Output", 20 LEVEL2 (in) "DC Level Adjust Pin 2"
part B pins: 4 GND (power) "Signal Ground Reference", 6 GND (power) "Signal Ground Reference", 10 GND (power) "Signal Ground Reference", 11 DGND (power) "Digital Ground Reference", 13 VCC (power) "Positive Power Supply", 15 VEE (power) "Negative Power Supply", 17 VEE (power) "Negative Power Supply", 19 VCC (power) "Positive Power Supply"

## ADA4412-3ARQZ-RL
designator U?
Integrated Triple Video Filter with Selectable Cutoff Frequencies for RGB, HD and SD, 5 V Max Supply, 1080i, 720p Resolution, Industrial, 20-pin SOP (RQ-20), Reel; Manufacturer: Analog Devices; PartNumber: ADA4412-3ARQZ-RL; Max Pos Supply: 12V; Standards: RGB, SD, Y/C, YPbPr, YUV; Variable Gain: 2x; DatasheetVersion: Rev. 0; PackageVersion: Aug-05; PackageReference: RQ-20; PackageDescription: 20-Pin Shrink Small Outline Package, Body 8.66 x 3.9 mm, Pitch 0.635 mm; Supplier 1: Digi-Key; Supplier Part Number 1: ADA4412-3ARQZ-RL-ND; Supplier 2: Newark; Supplier Part Number 2: 59K0889; Supplier 3: Mouser; Supplier Part Number 3: 584-ADA4412-3ARQZ-R; Packing: Reel; Resolution: 1080i, 720p; Mounting Technology: Surface Mount; Code_JEDEC: MO-137-AD; ComponentLink1Description: Manufacturer URL; ComponentLink1URL: http://www.analog.com/en/index.html; ComponentLink2Description: Datasheet; ComponentLink2URL: http://www.analog.com/static/imported-files/data_sheets/ADA4412-3.pdf; ComponentLink3Description: Package Specification; ComponentLink3URL: http:/www.analog.com/static/imported-files/packages/184195322RQ_20.pdf; ComponentLink4Description: URL Link1; ComponentLink4URL: Product URL:http://www.analog.com/en/specialty-amplifiers/video-ampsbuffersfilters/ada4412-3/products/product.html
footprint ADI-RQ-20_N (SOP, 20-Leads, Body 8.66x3.9mm, Pitch 0.635mm, IPC Medium Density)
footprint ADI-RQ-20_L (SOP, 20-Leads, Body 8.66x3.9mm, Pitch 0.635mm, IPC High Density)
footprint ADI-RQ-20_M (SOP, 20-Leads, Body 8.66x3.9mm, Pitch 0.635mm, IPC Low Density)
part A pins: 1 LEVEL1 (in) "DC Level Adjust Pin 1", 2 DISABLE (in) "Disable/Power Down", 3 Y/G (in) "Y/G Video Input", 5 Pb/B (in) "Pb/B Video Input", 7 Pr/R (in) "Pr/R Video Input", 8 F_SEL_A (in) "Filter Cutoff Select Input A", 9 F_SEL_B (in) "Filter Cutoff Select Input B", 12 NC "No Internal Connection", 14 Pr/R_OUT (out) "Pr/R Video Output", 16 Pb/B_OUT (out) "Pb/B Video Output", 18 Y/G_OUT (out) "Y/G Video Output", 20 LEVEL2 (in) "DC Level Adjust Pin 2"
part B pins: 4 GND (power) "Signal Ground Reference", 6 GND (power) "Signal Ground Reference", 10 GND (power) "Signal Ground Reference", 11 DGND (power) "Digital Ground Reference", 13 VCC (power) "Positive Power Supply", 15 VEE (power) "Negative Power Supply", 17 VEE (power) "Negative Power Supply", 19 VCC (power) "Positive Power Supply"

## ADA4417-3ARMZ
designator U?
Integrated Triple Video Filter for High Definition Video, 5 V Max Supply, 1080i, 720p Resolution, Industrial, 10-pin SOP (RM-10), Tube; Manufacturer: Analog Devices; PartNumber: ADA4417-3ARMZ; Max Pos Supply: 5V; Standards: RGB, YPbPr; Variable Gain: 2x; DatasheetVersion: Rev. A; PackageVersion: Aug-05; PackageReference: RM-10; PackageDescription: 10-Pin Mini Small Outline Package, Body 3 x 3 mm, Pitch 0.5 mm; Supplier 1: Digi-Key; Supplier Part Number 1: ADA4417-3ARMZ-ND; Supplier 2: Farnell; Supplier Part Number 2: 1331018; Supplier 3: Newark; Supplier Part Number 3: 28M3512; Supplier 4: Mouser; Supplier Part Number 4: 584-ADA4417-3ARMZ; Packing: Tube; Mounting Technology: Surface Mount; Code_JEDEC: MO-187-BA; ComponentLink1Description: Manufacturer URL; ComponentLink1URL: http://www.analog.com/en/index.html; ComponentLink2Description: Datasheet; ComponentLink2URL: http://www.analog.com/static/imported-files/data_sheets/ADA4417-3.pdf; ComponentLink3Description: Package Specification; ComponentLink3URL: http://www.analog.com/static/imported-files/packages/PKG_PDF/MSOP%28RM%29/RM_10.pdf; ComponentLink4Description: URL Link1; ComponentLink4URL: Product URL:http://www.analog.com/en/specialty-amplifiers/video-ampsbuffersfilters/ada4417-3/products/product.html
footprint ADI-RM-10_N (SOP, 10-Leads, Body 3x3mm, Pitch 0.5mm, IPC Medium Density)
footprint ADI-RM-10_L (SOP, 10-Leads, Body 3x3mm, Pitch 0.5mm, IPC High Density)
footprint ADI-RM-10_M (SOP, 10-Leads, Body 3x3mm, Pitch 0.5mm, IPC Low Density)
pins: 1 Y/G IN (in) "Y/G HD Video Input", 2 ~{DISABLE} (in) "Disable/Power Down (Active Low)", 3 PB/B IN (in) "Pb/B HD Video Input", 4 DCO (in) "Output DC Offset Enable", 5 PR/R IN (in) "Pr/R HD Video Input", 6 PR/R OUT (out) "Pr/R HD Video Output", 7 GND (power) "Ground", 8 PB/B OUT (out) "Pb/B HD Video Output", 9 VCC (power) "Power Supply", 10 Y/G OUT (out) "Y/G HD Video Output"

## ADA4417-3ARMZ-R7
designator U?
Integrated Triple Video Filter for High Definition Video, 5 V Max Supply, 1080i, 720p Resolution, Industrial, 10-pin SOP (RM-10), Reel; Manufacturer: Analog Devices; PartNumber: ADA4417-3ARMZ-R7; Max Pos Supply: 5V; Standards: RGB, YPbPr; Variable Gain: 2x; DatasheetVersion: Rev. A; PackageVersion: Aug-05; PackageReference: RM-10; PackageDescription: 10-Pin Mini Small Outline Package, Body 3 x 3 mm, Pitch 0.5 mm; Supplier 1: Digi-Key; Supplier Part Number 1: ADA4417-3ARMZ-R7-ND; Supplier 2: Mouser; Supplier Part Number 2: 584-ADA4417-3ARMZ-R7; Packing: Reel; Mounting Technology: Surface Mount; Code_JEDEC: MO-187-BA; ComponentLink1Description: Manufacturer URL; ComponentLink1URL: http://www.analog.com/en/index.html; ComponentLink2Description: Datasheet; ComponentLink2URL: http://www.analog.com/static/imported-files/data_sheets/ADA4417-3.pdf; ComponentLink3Description: Package Specification; ComponentLink3URL: http://www.analog.com/static/imported-files/packages/PKG_PDF/MSOP%28RM%29/RM_10.pdf; ComponentLink4Description: URL Link1; ComponentLink4URL: Product URL:http://www.analog.com/en/specialty-amplifiers/video-ampsbuffersfilters/ada4417-3/products/product.html
footprint ADI-RM-10_N (SOP, 10-Leads, Body 3x3mm, Pitch 0.5mm, IPC Medium Density)
footprint ADI-RM-10_L (SOP, 10-Leads, Body 3x3mm, Pitch 0.5mm, IPC High Density)
footprint ADI-RM-10_M (SOP, 10-Leads, Body 3x3mm, Pitch 0.5mm, IPC Low Density)
pins: 1 Y/G IN (in) "Y/G HD Video Input", 2 ~{DISABLE} (in) "Disable/Power Down (Active Low)", 3 PB/B IN (in) "Pb/B HD Video Input", 4 DCO (in) "Output DC Offset Enable", 5 PR/R IN (in) "Pr/R HD Video Input", 6 PR/R OUT (out) "Pr/R HD Video Output", 7 GND (power) "Ground", 8 PB/B OUT (out) "Pb/B HD Video Output", 9 VCC (power) "Power Supply", 10 Y/G OUT (out) "Y/G HD Video Output"

## ADA4417-3ARMZ-RL
designator U?
Integrated Triple Video Filter for High Definition Video, 5 V Max Supply, 1080i, 720p Resolution, Industrial, 10-pin SOP (RM-10), Reel; Manufacturer: Analog Devices; PartNumber: ADA4417-3ARMZ-RL; Max Pos Supply: 5V; Standards: RGB, YPbPr; Variable Gain: 2x; DatasheetVersion: Rev. A; PackageVersion: Aug-05; PackageReference: RM-10; PackageDescription: 10-Pin Mini Small Outline Package, Body 3 x 3 mm, Pitch 0.5 mm; Supplier 1: Digi-Key; Supplier Part Number 1: ADA4417-3ARMZ-RL-ND; Supplier 2: Mouser; Supplier Part Number 2: 584-ADA4417-3ARMZ-R; Packing: Reel; Mounting Technology: Surface Mount; Code_JEDEC: MO-187-BA; ComponentLink1Description: Manufacturer URL; ComponentLink1URL: http://www.analog.com/en/index.html; ComponentLink2Description: Datasheet; ComponentLink2URL: http://www.analog.com/static/imported-files/data_sheets/ADA4417-3.pdf; ComponentLink3Description: Package Specification; ComponentLink3URL: http://www.analog.com/static/imported-files/packages/PKG_PDF/MSOP%28RM%29/RM_10.pdf; ComponentLink4Description: URL Link1; ComponentLink4URL: Product URL:http://www.analog.com/en/specialty-amplifiers/video-ampsbuffersfilters/ada4417-3/products/product.html
footprint ADI-RM-10_N (SOP, 10-Leads, Body 3x3mm, Pitch 0.5mm, IPC Medium Density)
footprint ADI-RM-10_L (SOP, 10-Leads, Body 3x3mm, Pitch 0.5mm, IPC High Density)
footprint ADI-RM-10_M (SOP, 10-Leads, Body 3x3mm, Pitch 0.5mm, IPC Low Density)
pins: 1 Y/G IN (in) "Y/G HD Video Input", 2 ~{DISABLE} (in) "Disable/Power Down (Active Low)", 3 PB/B IN (in) "Pb/B HD Video Input", 4 DCO (in) "Output DC Offset Enable", 5 PR/R IN (in) "Pr/R HD Video Input", 6 PR/R OUT (out) "Pr/R HD Video Output", 7 GND (power) "Ground", 8 PB/B OUT (out) "Pb/B HD Video Output", 9 VCC (power) "Power Supply", 10 Y/G OUT (out) "Y/G HD Video Output"

## ADA4420-6ARQZ
designator U?
Low Cost 6-Channel HD / SD Video Filter, 5.25 V Max Supply, Industrial, 16-pin SOP (RQ-16), Tube; Manufacturer: Analog Devices; PartNumber: ADA4420-6ARQZ; Max Pos Supply: 5.25V; Standards: RGB, Y/C, YPbPr, CVBS; DatasheetVersion: Rev. A; PackageVersion: Aug-05; PackageReference: RQ-16; PackageDescription: 16-Pin Shrink Small Outline Package, Body 4.9 x 3.9 mm, Pitch 0.64 mm; Supplier 1: Digi-Key; Supplier Part Number 1: ADA4420-6ARQZ-ND; Supplier 2: Mouser; Supplier Part Number 2: 584-ADA4420-6ARQZ; Packing: Tube; Mounting Technology: Surface Mount; Code_JEDEC: MO-137-AB; ComponentLink1Description: Manufacturer URL; ComponentLink1URL: http://www.analog.com/en/index.html; ComponentLink2Description: Datasheet; ComponentLink2URL: http://www.analog.com/static/imported-files/data_sheets/ADA4420-6.pdf; ComponentLink3Description: Package Specification; ComponentLink3URL: http://www.analog.com/static/imported-files/packages/5595549651201762937RQ_16.pdf; ComponentLink4Description: URL Link1; ComponentLink4URL: Product URL:http://www.analog.com/en/specialty-amplifiers/video-ampsbuffersfilters/ada4420-6/products/product.html
footprint ADI-RQ-16_N (SOP, 16-Leads, Body 4.9x3.9mm, Pitch 0.64mm, IPC Medium Density)
footprint ADI-RQ-16_L (SOP, 16-Leads, Body 4.9x3.9mm, Pitch 0.64mm, IPC High Density)
footprint ADI-RQ-16_M (SOP, 16-Leads, Body 4.9x3.9mm, Pitch 0.64mm, IPC Low Density)
pins: 1 INSD1 (in) "Standard Definition Input 1", 2 INSD2 (in) "Standard Definition Input 2", 3 INSD3 (in) "Standard Definition Input 3", 4 VCC (power) "Power Supply", 5 ~{DIS} (in) "Disable/Power-Down Input", 6 INHD1 (in) "High Definition Input 1", 7 INHD2 (in) "High Definition Input 2", 8 INHD3 (in) "High Definition Input 3", 9 OUTHD3 (out) "High Definition Output 3", 10 OUTHD2 (out) "High Definition Output 2", 11 OUTHD1 (out) "High Definition Output 1", 12 GND (power) "Ground", 13 GND (power) "Ground", 14 OUTSD3 (out) "Standard Definition Output 3", 15 OUTSD2 (out) "Standard Definition Output 2", 16 OUTSD1 (out) "Standard Definition Output 1"

## ADA4420-6ARQZ-R7
designator U?
Low Cost 6-Channel HD / SD Video Filter, 5.25 V Max Supply, Industrial, 16-pin SOP (RQ-16), Reel; Manufacturer: Analog Devices; PartNumber: ADA4420-6ARQZ-R7; Max Pos Supply: 5.25V; Standards: RGB, Y/C, YPbPr, CVBS; DatasheetVersion: Rev. A; PackageVersion: Aug-05; PackageReference: RQ-16; PackageDescription: 16-Pin Shrink Small Outline Package, Body 4.9 x 3.9 mm, Pitch 0.64 mm; Supplier 1: Digi-Key; Supplier Part Number 1: ADA4420-6ARQZ-R7-ND; Supplier 2: Mouser; Supplier Part Number 2: 584-ADA4420-6ARQZ-R7; Packing: Reel; Mounting Technology: Surface Mount; Code_JEDEC: MO-137-AB; ComponentLink1Description: Manufacturer URL; ComponentLink1URL: http://www.analog.com/en/index.html; ComponentLink2Description: Datasheet; ComponentLink2URL: http://www.analog.com/static/imported-files/data_sheets/ADA4420-6.pdf; ComponentLink3Description: Package Specification; ComponentLink3URL: http://www.analog.com/static/imported-files/packages/5595549651201762937RQ_16.pdf; ComponentLink4Description: URL Link1; ComponentLink4URL: Product URL:http://www.analog.com/en/specialty-amplifiers/video-ampsbuffersfilters/ada4420-6/products/product.html
footprint ADI-RQ-16_N (SOP, 16-Leads, Body 4.9x3.9mm, Pitch 0.64mm, IPC Medium Density)
footprint ADI-RQ-16_L (SOP, 16-Leads, Body 4.9x3.9mm, Pitch 0.64mm, IPC High Density)
footprint ADI-RQ-16_M (SOP, 16-Leads, Body 4.9x3.9mm, Pitch 0.64mm, IPC Low Density)
pins: 1 INSD1 (in) "Standard Definition Input 1", 2 INSD2 (in) "Standard Definition Input 2", 3 INSD3 (in) "Standard Definition Input 3", 4 VCC (power) "Power Supply", 5 ~{DIS} (in) "Disable/Power-Down Input", 6 INHD1 (in) "High Definition Input 1", 7 INHD2 (in) "High Definition Input 2", 8 INHD3 (in) "High Definition Input 3", 9 OUTHD3 (out) "High Definition Output 3", 10 OUTHD2 (out) "High Definition Output 2", 11 OUTHD1 (out) "High Definition Output 1", 12 GND (power) "Ground", 13 GND (power) "Ground", 14 OUTSD3 (out) "Standard Definition Output 3", 15 OUTSD2 (out) "Standard Definition Output 2", 16 OUTSD1 (out) "Standard Definition Output 1"

## ADA4420-6ARQZ-RL
designator U?
Low Cost 6-Channel HD / SD Video Filter, 5.25 V Max Supply, Industrial, 16-pin SOP (RQ-16), Reel; Manufacturer: Analog Devices; PartNumber: ADA4420-6ARQZ-RL; Max Pos Supply: 5.25V; Standards: RGB, Y/C, YPbPr, CVBS; DatasheetVersion: Rev. A; PackageVersion: Aug-05; PackageReference: RQ-16; PackageDescription: 16-Pin Shrink Small Outline Package, Body 4.9 x 3.9 mm, Pitch 0.64 mm; Supplier 1: Digi-Key; Supplier Part Number 1: ADA4420-6ARQZ-RL-ND; Supplier 2: Mouser; Supplier Part Number 2: 584-ADA4420-6ARQZ-R; Packing: Reel; Mounting Technology: Surface Mount; Code_JEDEC: MO-137-AB; ComponentLink1Description: Manufacturer URL; ComponentLink1URL: http://www.analog.com/en/index.html; ComponentLink2Description: Datasheet; ComponentLink2URL: http://www.analog.com/static/imported-files/data_sheets/ADA4420-6.pdf; ComponentLink3Description: Package Specification; ComponentLink3URL: http://www.analog.com/static/imported-files/packages/5595549651201762937RQ_16.pdf; ComponentLink4Description: URL Link1; ComponentLink4URL: Product URL:http://www.analog.com/en/specialty-amplifiers/video-ampsbuffersfilters/ada4420-6/products/product.html
footprint ADI-RQ-16_N (SOP, 16-Leads, Body 4.9x3.9mm, Pitch 0.64mm, IPC Medium Density)
footprint ADI-RQ-16_L (SOP, 16-Leads, Body 4.9x3.9mm, Pitch 0.64mm, IPC High Density)
footprint ADI-RQ-16_M (SOP, 16-Leads, Body 4.9x3.9mm, Pitch 0.64mm, IPC Low Density)
pins: 1 INSD1 (in) "Standard Definition Input 1", 2 INSD2 (in) "Standard Definition Input 2", 3 INSD3 (in) "Standard Definition Input 3", 4 VCC (power) "Power Supply", 5 ~{DIS} (in) "Disable/Power-Down Input", 6 INHD1 (in) "High Definition Input 1", 7 INHD2 (in) "High Definition Input 2", 8 INHD3 (in) "High Definition Input 3", 9 OUTHD3 (out) "High Definition Output 3", 10 OUTHD2 (out) "High Definition Output 2", 11 OUTHD1 (out) "High Definition Output 1", 12 GND (power) "Ground", 13 GND (power) "Ground", 14 OUTSD3 (out) "Standard Definition Output 3", 15 OUTSD2 (out) "Standard Definition Output 2", 16 OUTSD1 (out) "Standard Definition Output 1"

## ADA4420-6ARUZ
designator U?
Low Cost 6-Channel HD / SD Video Filter, 5.25 V Max Supply, Industrial, 20-pin SOP (RU-20), Tube; Manufacturer: Analog Devices; PartNumber: ADA4420-6ARUZ; Max Pos Supply: 5.25V; Standards: RGB, Y/C, YPbPr, CVBS; DatasheetVersion: Rev. A; PackageVersion: Jan-03; PackageReference: RU-20; PackageDescription: 20-Pin Thin Shrink Small Outline Package, Body 6.5 x 4.4 mm, Pitch 0.65 mm; Supplier 1: Mouser; Supplier Part Number 1: N/A; Packing: Tube; Mounting Technology: Surface Mount; Code_JEDEC: MO-153AC; ComponentLink1Description: Manufacturer URL; ComponentLink1URL: http://www.analog.com/en/index.html; ComponentLink2Description: Datasheet; ComponentLink2URL: http://www.analog.com/static/imported-files/data_sheets/ADA4420-6.pdf; ComponentLink3Description: Package Specification; ComponentLink3URL: http://www.analog.com/static/imported-files/packages/364515793657813558433715854054607941441RU20.pdf; ComponentLink4Description: URL Link1; ComponentLink4URL: Product URL:http://www.analog.com/en/specialty-amplifiers/video-ampsbuffersfilters/ada4420-6/products/product.html
footprint ADI-RU-20_N (SOP, 20-Leads, Body 6.5x4.4mm, Pitch 0.65mm, IPC Medium Density)
footprint ADI-RU-20_L (SOP, 20-Leads, Body 6.5x4.4mm, Pitch 0.65mm, IPC High Density)
footprint ADI-RU-20_M (SOP, 20-Leads, Body 6.5x4.4mm, Pitch 0.65mm, IPC Low Density)
part A pins: 1 INSD1 (in) "Standard Definition Input 1.", 2 INSD2 (in) "Standard Definition Input 2.", 3 INSD3 (in) "Standard Definition Input 3.", 5 VCC (power) "Power Supply.", 6 ~{DIS} (in) "Disable/Power Down Input.", 7 INHD1 (in) "High Definition Input 1.", 8 INHD2 (in) "High Definition Input 2.", 9 INHD3 (in) "High Definition Input 3.", 12 OUTHD3 (out) "High Definition Output 3.", 13 OUTHD2 (out) "High Definition Output 2.", 14 OUTHD1 (out) "High Definition Output 1.", 16 GND (power) "Ground.", 17 GND (power) "Ground.", 18 OUTSD3 (out) "Standard Definition Output 3.", 19 OUTSD2 (out) "Standard Definition Output 2.", 20 OUTSD1 (out) "Standard Definition Output 1."
part B pins: 4 NC "Do not connect to this pin.", 10 NC "Do not connect to this pin.", 11 NC "Do not connect to this pin.", 15 NC "No Connection."